# EAGLE library part 750316332 (library Wurth_Power Magnetics_WE-POE+)
WE-PoE+ Power over Ethernet Plus Transformer Characteristics Designed to meet 30 W PoE+ objectives of IEEE802.3at Frequency range: 250–400 kHz Input voltage range: 36–72 V 1.5 kV Hipot test between primary and secondary Operating temperature: –40 °C to +125 °C (incl. self-heating) Applications PoE+ powered devices IP Phones WLAN Access Points Security cameras <https://www.we-online.com/components/media/o14840v209%20Family_WE-POE%2B.jpg> Details see: www.we-online.com/en/components/products/WE-POE-PLUS <www.we-online.com/catalog/WE-POE-PLUS/?utm_source=eagle_model&utm_medium=description_link&utm_campaign=eisos_eagle> Updated by Ella 2024-01-29 2024(C) Wurth Elektronik
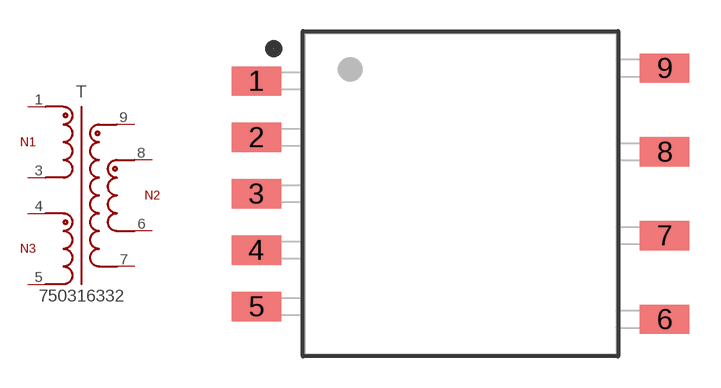
[diagram p18: symbol with the pads of WE-POE+_EPW15; footprint WE-POE+_EPW15]

Designator prefix T

## 750316332 (DATASHEET-URL: https://www.we-online.com/redexpert/spec/750316332?ae; IO1: 6A; ISAT: 4.5A; L: 48uH; LS: 3200nH; N: 5:1:2.2; PART-NUMBER: 750316332; SIZE: EPW15; VALUE: 750316332; VAUX: 12V; VIN: 36 - 57 V (DC); VO1: 5V; VT: 1500V(AC))  [WE-POE+_EPW15]
1  1  pas
3  3  pas
4  4  pas
5  5  pas
6  6  pas
7  7  pas
8  8  pas
9  9  pas

## Footprint WE-POE+_EPW15 (pad centres in mm)
WE-PoE Power over Ethernet Transformer EPPW15, SMT, 9Pins
smd 2.38 x 1.41: 1 -9.84,5.44; 2 -9.84,2.72; 3 -9.84,0; 4 -9.84,-2.72; 5 -9.84,-5.44; 6 9.84,-6.06; 7 9.84,-2.02; 8 9.84,2.02; 9 9.84,6.06